# EAGLE library part MYCOMPONENTS_TPA0172-HTSSOP24 (library Displayboard)
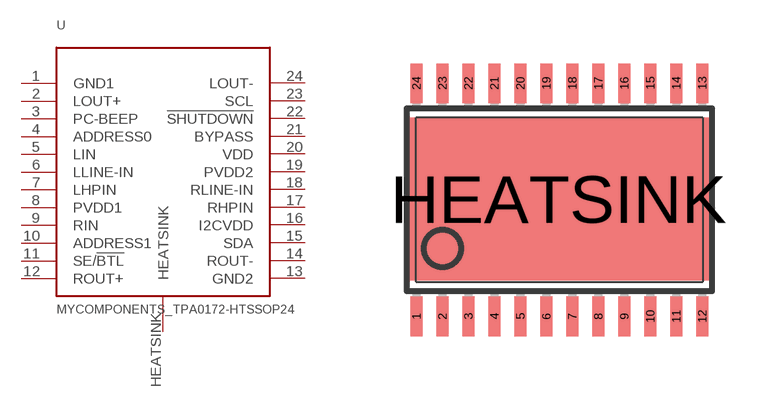
[diagram p0: symbol with the pads of MYCOMPONENTS_HT-TSSOP-24; footprint MYCOMPONENTS_HT-TSSOP-24]

Designator prefix -

## MYCOMPONENTS_TPA0172-HTSSOP24  [MYCOMPONENTS_HT-TSSOP-24]
1  GND1
2  LOUT+
3  PC-BEEP
4  ADDRESS0
5  LIN
6  LLINE-IN
7  LHPIN
8  PVDD1
9  RIN
10  ADDRESS1
11  SE/!BTL
12  ROUT+
13  GND2
14  ROUT-
15  SDA
16  I2CVDD
17  RHPIN
18  RLINE-IN
19  PVDD2
20  VDD
21  BYPASS
22  !SHUTDOWN
23  SCL
24  LOUT-
HEATSINK  HEATSINK

## Footprint MYCOMPONENTS_HT-TSSOP-24 (pad centres in mm)
smd 0.305 x 0.991: 1 -3.575,-2.918; 2 -2.925,-2.918; 3 -2.275,-2.918; 4 -1.625,-2.918; 5 -0.975,-2.918; 6 -0.325,-2.918; 7 0.325,-2.918; 8 0.975,-2.918; 9 1.625,-2.918; 10 2.275,-2.918; 11 2.925,-2.918; 12 3.575,-2.918; 13 3.575,2.918; 14 2.925,2.918; 15 2.275,2.918; 16 1.625,2.918; 17 0.975,2.918; 18 0.325,2.918; 19 -0.325,2.918; 20 -0.975,2.918; 21 -1.625,2.918; 22 -2.275,2.918; 23 -2.925,2.918; 24 -3.575,2.918
smd 7.62 x 4.064: HEATSINK -0.02,0.02